# EAGLE library part SILICON_LABS_EFM8BB10F8G (library 3D_MIG_Controller)
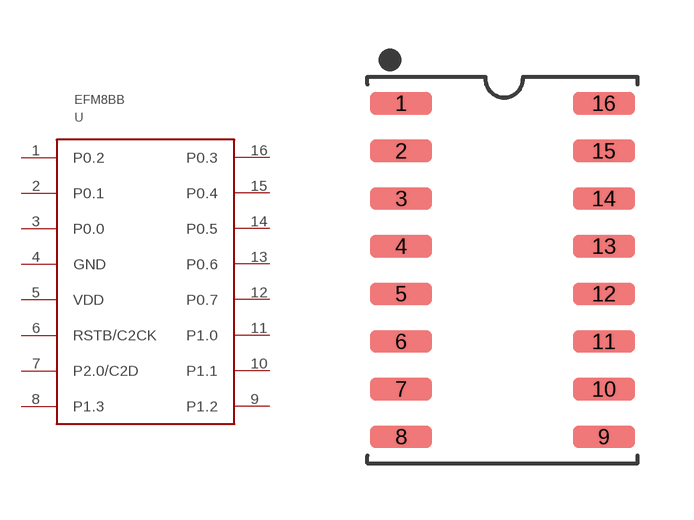
[diagram p70: symbol with the pads of SOIC16; footprint SOIC16]

Designator prefix U

## SILICON_LABS_EFM8BB10F8G  [SOIC16]
1  P0.2
2  P0.1
3  P0.0
4  GND
5  VDD
6  RSTB/C2CK
7  P2.0/C2D
8  P1.3
9  P1.2
10  P1.1
11  P1.0
12  P0.7
13  P0.6
14  P0.5
15  P0.4
16  P0.3

## Footprint SOIC16 (pad centres in mm)
SOIC-16 Wide, creepage 8.1mm
smd 1.65 x 0.6: 1 -2.7,4.445; 2 -2.7,3.175; 3 -2.7,1.905; 4 -2.7,0.635; 5 -2.7,-0.635; 6 -2.7,-1.905; 7 -2.7,-3.175; 8 -2.7,-4.445; 9 2.7,-4.445; 10 2.7,-3.175; 11 2.7,-1.905; 12 2.7,-0.635; 13 2.7,0.635; 14 2.7,1.905; 15 2.7,3.175; 16 2.7,4.445